# Altium footprint library ARM_Libary_DIL.PcbLib: 37 footprints (part 3 of 3)
Each footprint in its own frame and in the unit in brackets; x right, y up, seen from the top. Pads: shape width x height; smd on the part's side, far side on the other; paste and mask are expansions set on the pad; w line width, h text height; cw(c..) or ccw(c..) is an arc to the next point about the centre after c.
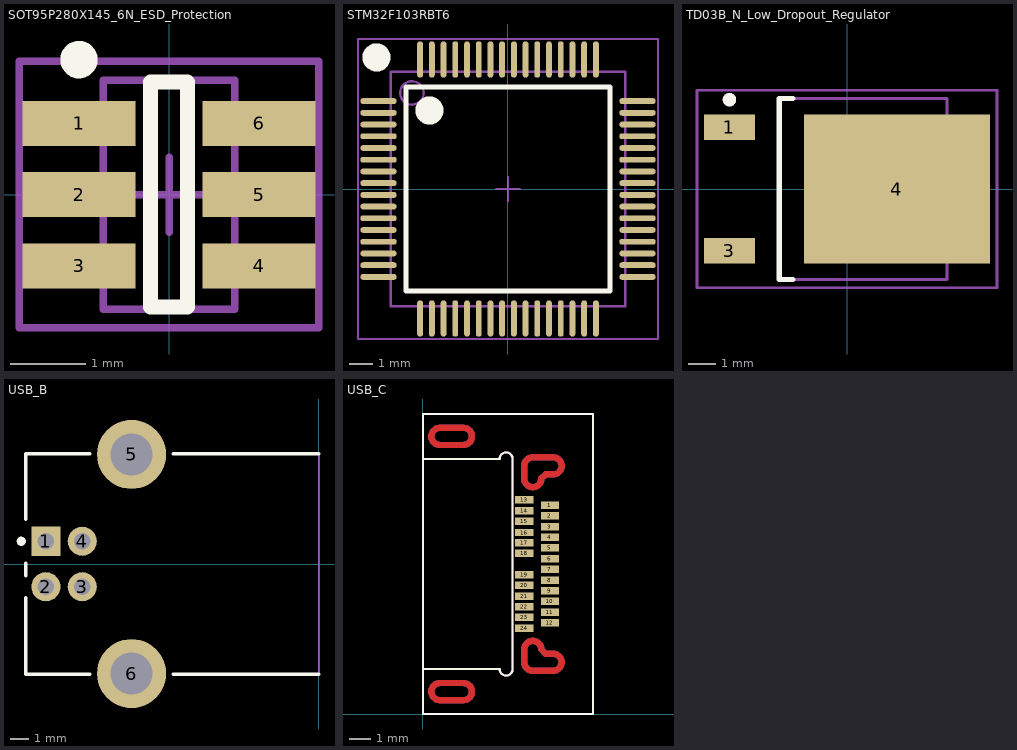
[diagram p2: the footprints below, top view; thin cyan lines are the x and y axes]

## SOT95P280X145_6N_ESD_Protection [mm]
pads (6):
  rect 1.5x0.6 smd: 1(-1.2,0.95) 2(-1.2,0) 3(-1.2,-0.95) 4(1.2,-0.95) 5(1.2,0) 6(1.2,0.95)
Top Overlay:
  circle w0.25: c-1.2,1.8 r0.125
  lines w0.2: -0.25,-1.5 -0.25,1.5 0.25,1.5 0.25,-1.5 -0.25,-1.5
Mechanical 13:
  lines w0.1: -0.875,-1.525 0.875,-1.525 0.875,1.525 -0.875,1.525 -0.875,-1.525
Mechanical 15:
  lines w0.1: -0.5,0 0.5,0 ; 0,-0.5 0,0.5 ; -2,-1.775 2,-1.775 2,1.775 -2,1.775 -2,-1.775
3D body: height 1.45, standoff 0.1, extent -0.875,-1.525 0.875,1.525

## STM32F103RBT6 [mm] "Processor"
pads (64):
  oval 1.55x0.25 smd mask+0: 1(-5.525,3.75) 2(-5.525,3.25) 3(-5.525,2.75) 4(-5.525,2.25) 5(-5.525,1.75) 6(-5.525,1.25) 7(-5.525,0.75) 8(-5.525,0.25) 9(-5.525,-0.25) 10(-5.525,-0.75) 11(-5.525,-1.25) 12(-5.525,-1.75) 13(-5.525,-2.25) 14(-5.525,-2.75) 15(-5.525,-3.25) 16(-5.525,-3.75) 33(5.525,-3.75) 34(5.525,-3.25) 35(5.525,-2.75) 36(5.525,-2.25) 37(5.525,-1.75) 38(5.525,-1.25) 39(5.525,-0.75) 40(5.525,-0.25) 41(5.525,0.25) 42(5.525,0.75) 43(5.525,1.25) 44(5.525,1.75) 45(5.525,2.25) 46(5.525,2.75) 47(5.525,3.25) 48(5.525,3.75)
  oval 0.25x1.55 smd mask+0: 17(-3.75,-5.525) 18(-3.25,-5.525) 19(-2.75,-5.525) 20(-2.25,-5.525) 21(-1.75,-5.525) 22(-1.25,-5.525) 23(-0.75,-5.525) 24(-0.25,-5.525) 25(0.25,-5.525) 26(0.75,-5.525) 27(1.25,-5.525) 28(1.75,-5.525) 29(2.25,-5.525) 30(2.75,-5.525) 31(3.25,-5.525) 32(3.75,-5.525) 49(3.75,5.525) 50(3.25,5.525) 51(2.75,5.525) 52(2.25,5.525) 53(1.75,5.525) 54(1.25,5.525) 55(0.75,5.525) 56(0.25,5.525) 57(-0.25,5.525) 58(-0.75,5.525) 59(-1.25,5.525) 60(-1.75,5.525) 61(-2.25,5.525) 62(-2.75,5.525) 63(-3.25,5.525)
  oval 0.25x1.55 smd mask-0.25: 64(-3.75,5.525)
Top Overlay:
  circle w0.6: c-3.35,3.35 r0.3
  circle w0.6: c-5.609,5.613 r0.3
  lines w0.2: -4.35,-4.35 -4.35,4.35 4.35,4.35 4.35,-4.35 -4.35,-4.35
Mechanical 13:
  circle w0.1: c-4.1,4.1 r0.5
  lines w0.1: -5,-5 -5,5 5,5 5,-5 -5,-5
Mechanical 15:
  lines w0.1: -0.5,0 0.5,0 ; 0,-0.5 0,0.5 ; -6.4,-6.4 -6.4,6.4 6.4,6.4 6.4,-6.4 -6.4,-6.4
3D body: height 1.6, standoff 0, extent -5,-5 5,5

## TD03B_N_Low_Dropout_Regulator [mm]
pads (3):
  rect 1.9x0.95 smd: 1(-4.35,2.28) 3(-4.35,-2.28)
  rect 6.9x5.5 smd: 4(1.85,0)
Top Overlay:
  circle w0.25: c-4.35,3.305 r0.125
  lines w0.2: -2,-3.35 -2.5,-3.35 -2.5,3.35 -2,3.35
Mechanical 13:
  lines w0.1: -2.5,-3.35 3.7,-3.35 3.7,3.35 -2.5,3.35 -2.5,-3.35
Mechanical 15:
  lines w0.1: -0.5,0 0.5,0 ; 0,-0.5 0,0.5 ; -5.55,-3.65 5.55,-3.65 5.55,3.65 -5.55,3.65 -5.55,-3.65
3D body: height 2.38, standoff 0, extent -2.499,-3.349 3.699,3.349

## USB_B [mm] "USB-B_Buchse"
pads (6):
  rect 1.6x1.6 hole 0.92: 1(-15.01,1.25)
  round 1.6 hole 0.92: 2(-15.01,-1.25) 3(-13.01,-1.25) 4(-13.01,1.25)
  round 3.8 hole 2.3: 5(-10.3,6.02) 6(-10.3,-6.02)
Top Overlay:
  circle w0.25: c-16.36,1.25 r0.125
  lines w0.2: -16.12,-1.85 -16.12,-6.05 -12.6,-6.05 ; -16.12,-0.65 -16.12,0.05 ; -16.12,2.45 -16.12,6.05 -12.6,6.05 ; -8,-6.05 -0.02,-6.05 ; -8,6.05 -0.02,6.05
Mechanical 1:
  lines w0.1: 0,-6.05 0,6.05
  text "PCB Edge" at -0.325,-5.651 h0.25

## USB_C [mm] "SON, 24-Leads, Body 9,93x8,22mm, Pitch 0,50mm, IPC Medium Density"
height 3.6
pads (24):
  rect 0.85x0.35 smd mask+0: 1(5.95,9.775) 2(5.95,9.275) 3(5.95,8.775) 4(5.95,8.275) 5(5.95,7.775) 6(5.95,7.275) 7(5.95,6.775) 8(5.95,6.275) 9(5.95,5.775) 10(5.95,5.275) 11(5.95,4.775) 12(5.95,4.275) 13(4.75,10.025) 14(4.75,9.525) 15(4.75,9.025) 16(4.75,8.5) 17(4.75,8.025) 18(4.75,7.525) 19(4.75,6.525) 20(4.75,6.025) 21(4.75,5.525) 22(4.75,5.025) 23(4.75,4.525) 24(4.75,4.025)
Top Layer:
  lines w0.3: 5.55,11.025 cw(c5.15,11.025) 4.75,11.02 4.75,11.62 cw(c5.15,11.62) 5.15,12.02 6.1,12.02 cw(c6.1,11.62) 6.1,11.22 5.75,11.22 5.55,11.034 ; 5.712,2.851 5.55,3.025 ccw(c5.15,3.025) 4.75,3.025 4.75,2.425 ccw(c5.15,2.425) 5.15,2.025 6.1,2.025 ccw(c6.1,2.425) 6.1,2.825 5.75,2.825 ; 0.8,0.65 cw(c0.8,1.05) 0.8,1.45 1.9,1.45 cw(c1.9,1.05) 1.9,0.65 0.8,0.65 ; 0.8,12.6 cw(c0.8,13) 0.8,13.4 1.9,13.4 cw(c1.9,13) 1.9,12.6 0.8,12.6
Bottom Layer:
  lines w0.3: 5.55,11.025 cw(c5.15,11.025) 4.75,11.02 4.75,11.62 cw(c5.15,11.62) 5.15,12.02 6.1,12.02 cw(c6.1,11.62) 6.1,11.22 5.75,11.22 5.55,11.034 ; 5.712,2.851 5.55,3.025 ccw(c5.15,3.025) 4.75,3.025 4.75,2.425 ccw(c5.15,2.425) 5.15,2.025 6.1,2.025 ccw(c6.1,2.425) 6.1,2.825 5.75,2.825 ; 0.8,0.65 cw(c0.8,1.05) 0.8,1.45 1.9,1.45 cw(c1.9,1.05) 1.9,0.65 0.8,0.65 ; 0.8,12.6 cw(c0.8,13) 0.8,13.4 1.9,13.4 cw(c1.9,13) 1.9,12.6 0.8,12.6
Top Overlay:
  lines w0.1: 0,0 7.975,0 7.975,14.05 0,14.05 0,0 ; 0,2.1 3.6,2.1 ccw(c3.9,2.1) 4.2,2.1 4.2,11.95 ccw(c3.9,11.95) 3.6,11.95 0,11.95 0,2.1
Mechanical 1:
  lines w0.1: 0,2.1 0,11.95 3.6,11.95 cw(c3.9,11.95) 4.2,11.95 4.2,2.1 cw(c3.9,2.1) 3.6,2.1 0,2.1